# Altium schematic symbol library Transistor.SchLib: 9 symbols
Pins are listed as number, name and electrical type; pins without a type are passive.

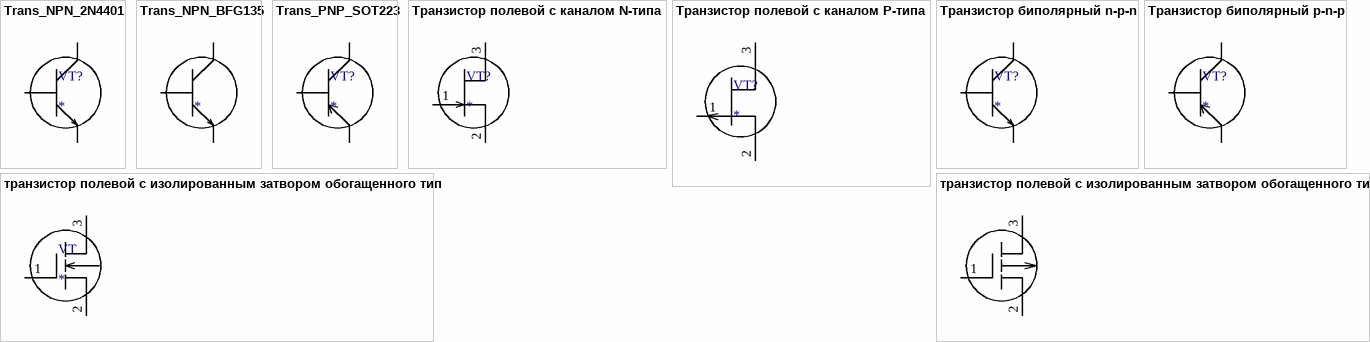
[diagram p0: symbols Trans_NPN_2N4401 to транзистор полевой с изолированным затвором обогащенного типа с Pканалом]

## Trans_NPN_2N4401
designator VT?
footprint 2N4401
pins: 1 коллектор, 1,3 эмитер, 2 база

## Trans_NPN_BFG135
designator ?
footprint BFG135
pins: 1 коллектор, 2 база, 3 эмитер

## Trans_PNP_SOT223
designator VT?
footprint SOT223
pins: 1 база, 2 эмитер, 3 коллектор

## Tранзистор полевой с каналом N-типа
designator VT?
pins: 1, 2, 3

## Tранзистор полевой с каналом P-типа
designator VT?
footprint SOT223
pins: 1, 2, 3

## Транзистор биполярный n-p-n
designator VT?
pins: 1 коллектор, 2 база, 3 эмитер

## Транзистор биполярный p-n-p
designator VT?
pins: 1 база, 2 эмитер, 3 коллектор

## транзистор полевой с изолированным затвором обогащенного типа с Nканалом
designator VT
pins: 1, 2, 3

## транзистор полевой с изолированным затвором обогащенного типа с Pканалом
designator VT  (value not drawn)
pins: 1, 2, 3